# EAGLE library part ATMEGA128RFA1 (library PiB_ic_microcontrollers)
ATmega128RFA1 8-bit AVR Microcontroller with Low Power 2.4GHz Transceiver for ZigBee and IEEE 802.15.4
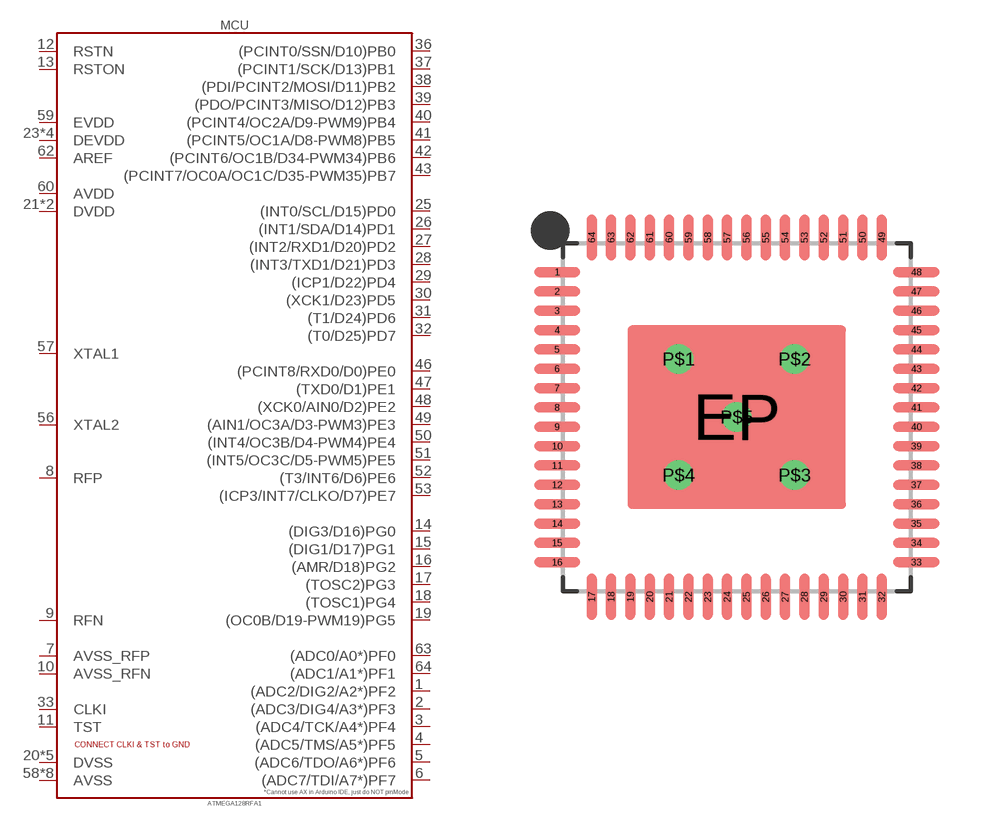
[diagram p0: symbol with the pads of QFN50P900X900X90-64; footprint QFN50P900X900X90-64]

Designator prefix MCU

## ATMEGA128RFA1_VFQFN-64_EXPOSED-PAD (DATASHEET: http://www.microchip.com/mymicrochip/filehandler.aspx?ddocname=en590262; DIST: Digikey; DISTLINK: https://www.digikey.com/products/en?keywords=ATMEGA128RFA1-ZU-ND; DISTPN: ATMEGA128RFA1-ZU-ND; MFR: Microchip Technology; MPN: ATMEGA128RFA1-ZU; VALUE: ATMEGA128RFA1)  [QFN50P900X900X90-64]
1  (ADC2/DIG2/A2*)PF2
2  (ADC3/DIG4/A3*)PF3
3  (ADC4/TCK/A4*)PF4
4  (ADC5/TMS/A5*)PF5
5  (ADC6/TDO/A6*)PF6
6  (ADC7/TDI/A7*)PF7
7  AVSS_RFP  pwr
8  RFP  pas
9  RFN  pas
10  AVSS_RFN  pwr
11  TST  pwr
12  RSTN
13  RSTON
14  (DIG3/D16)PG0
15  (DIG1/D17)PG1
16  (AMR/D18)PG2
17  (TOSC2)PG3
18  (TOSC1)PG4
19  (OC0B/D19-PWM19)PG5
20  DVSS  pwr
21  DVDD  pas
22  DVDD  pas
23  DEVDD  pwr
24  DVSS  pwr
25  (INT0/SCL/D15)PD0
26  (INT1/SDA/D14)PD1
27  (INT2/RXD1/D20)PD2
28  (INT3/TXD1/D21)PD3
29  (ICP1/D22)PD4
30  (XCK1/D23)PD5
31  (T1/D24)PD6
32  (T0/D25)PD7
33  CLKI  pwr
34  DEVDD  pwr
35  DVSS  pwr
36  (PCINT0/SSN/D10)PB0
37  (PCINT1/SCK/D13)PB1
38  (PDI/PCINT2/MOSI/D11)PB2
39  (PDO/PCINT3/MISO/D12)PB3
40  (PCINT4/OC2A/D9-PWM9)PB4
41  (PCINT5/OC1A/D8-PWM8)PB5
42  (PCINT6/OC1B/D34-PWM34)PB6
43  (PCINT7/OC0A/OC1C/D35-PWM35)PB7
44  DEVDD  pwr
45  DVSS  pwr
46  (PCINT8/RXD0/D0)PE0
47  (TXD0/D1)PE1
48  (XCK0/AIN0/D2)PE2
49  (AIN1/OC3A/D3-PWM3)PE3
50  (INT4/OC3B/D4-PWM4)PE4
51  (INT5/OC3C/D5-PWM5)PE5
52  (T3/INT6/D6)PE6
53  (ICP3/INT7/CLKO/D7)PE7
54  DEVDD  pwr
55  DVSS  pwr
56  XTAL2  pas
57  XTAL1  pas
58  AVSS  pwr
59  EVDD  pwr
60  AVDD  pas
61  AVSS  pwr
62  AREF  pas
63  (ADC0/A0*)PF0
64  (ADC1/A1*)PF1
EP  AVSS  pwr
P$1  AVSS  pwr
P$2  AVSS  pwr
P$3  AVSS  pwr
P$4  AVSS  pwr
P$5  AVSS  pwr

## Footprint QFN50P900X900X90-64 (pad centres in mm)
64-QFN, 0.5 mm pitch, 9 X 9 X 0.9 mm body 64-pin QFN package with 0.5 mm pitch with body size 9 X 9 X 0.9 mm
smd 1.2 x 0.264: 1 -4.645,3.75; 2 -4.645,3.25; 3 -4.645,2.75; 4 -4.645,2.25; 5 -4.645,1.75; 6 -4.645,1.25; 7 -4.645,0.75; 8 -4.645,0.25; 9 -4.645,-0.25; 10 -4.645,-0.75; 11 -4.645,-1.25; 12 -4.645,-1.75; 13 -4.645,-2.25; 14 -4.645,-2.75; 15 -4.645,-3.25; 16 -4.645,-3.75; 33 4.645,-3.75; 34 4.645,-3.25; 35 4.645,-2.75; 36 4.645,-2.25; 37 4.645,-1.75; 38 4.645,-1.25; 39 4.645,-0.75; 40 4.645,-0.25; 41 4.645,0.25; 42 4.645,0.75; 43 4.645,1.25; 44 4.645,1.75; 45 4.645,2.25; 46 4.645,2.75; 47 4.645,3.25; 48 4.645,3.75
smd 0.264 x 1.2: 17 -3.75,-4.645; 18 -3.25,-4.645; 19 -2.75,-4.645; 20 -2.25,-4.645; 21 -1.75,-4.645; 22 -1.25,-4.645; 23 -0.75,-4.645; 24 -0.25,-4.645; 25 0.25,-4.645; 26 0.75,-4.645; 27 1.25,-4.645; 28 1.75,-4.645; 29 2.25,-4.645; 30 2.75,-4.645; 31 3.25,-4.645; 32 3.75,-4.645; 49 3.75,4.645; 50 3.25,4.645; 51 2.75,4.645; 52 2.25,4.645; 53 1.75,4.645; 54 1.25,4.645; 55 0.75,4.645; 56 0.25,4.645; 57 -0.25,4.645; 58 -0.75,4.645; 59 -1.25,4.645; 60 -1.75,4.645; 61 -2.25,4.645; 62 -2.75,4.645; 63 -3.25,4.645; 64 -3.75,4.645
smd 5.65 x 4.75: EP 0,0
drill 0.254: P$1 -1.5,1.5; P$2 1.5,1.5; P$3 1.5,-1.5; P$4 -1.5,-1.5; P$5 0,0